# EAGLE library part DS1307* (library IC_Clock-Timing)
64 x 8, Serial, I2 C Real-Time Clock Datasheet <https://datasheets.maximintegrated.com/en/ds/DS1307.pdf>
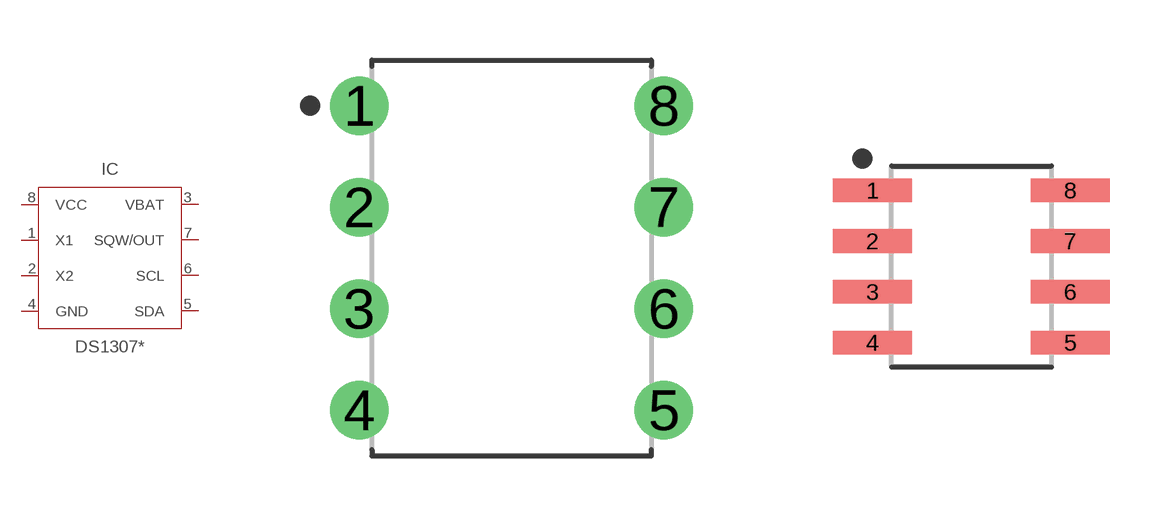
[diagram p1: symbol with the pads of DIP762W56P254L937H457Q8B; footprints DIP762W56P254L937H457Q8B, SOIC127P600X175-8N]

Designator prefix IC

## DS1307+-PDIP (CATEGORY: IC_Clock-Timing; DESCRIPTION: 64 x 8, Serial, I2 C Real-Time Clock; MANUFACTURER: Maxim Integrated; MPN: DS1307+; OPERATING_TEMP: 0°C to +70°C; PART_STATUS: Active; ROHS_COMPLIANT: COMPLIANT; SERIES: DS1307; SUB-CATEGORY: RTC; VALUE: DS1307), DS1307N+-PDIP (CATEGORY: IC_Clock-Timing; DESCRIPTION: 64 x 8, Serial, I2 C Real-Time Clock; MANUFACTURER: Maxim Integrated; MPN: DS1307N+; OPERATING_TEMP: -40°C to +85°C; PART_STATUS: Active; ROHS_COMPLIANT: COMPLIANT; SERIES: DS1307; SUB-CATEGORY: RTC; VALUE: DS1307)  [DIP762W56P254L937H457Q8B]
1  X1  in
2  X2  in
3  VBAT  pwr
4  GND  pwr
5  SDA
6  SCL  in
7  SQW/OUT  out
8  VCC  pwr

## DS1307Z+-SO (CATEGORY: IC_Clock-Timing; DESCRIPTION: 64 x 8, Serial, I2 C Real-Time Clock; MANUFACTURER: Maxim Integrated; MPN: DS1307Z+; OPERATING_TEMP: 0°C to +70°C; PART_STATUS: Active; ROHS_COMPLIANT: COMPLIANT; SERIES: DS1307; SUB-CATEGORY: RTC; VALUE: DS1307), DS1307Z+T&R-SO (CATEGORY: IC_Clock-Timing; DESCRIPTION: 64 x 8, Serial, I2 C Real-Time Clock; MANUFACTURER: Maxim Integrated; MPN: DS1307Z+T&R; OPERATING_TEMP: 0°C to +70°C; PART_STATUS: Active; ROHS_COMPLIANT: COMPLIANT; SERIES: DS1307; SUB-CATEGORY: RTC; VALUE: DS1307), DS1307ZN+-SO (CATEGORY: IC_Clock-Timing; DESCRIPTION: 64 x 8, Serial, I2 C Real-Time Clock; MANUFACTURER: Maxim Integrated; MPN: DS1307ZN+; OPERATING_TEMP: -40°C to +85°C; PART_STATUS: Active; ROHS_COMPLIANT: COMPLIANT; SERIES: DS1307; SUB-CATEGORY: RTC; VALUE: DS1307), DS1307ZN+T&R-SO (CATEGORY: IC_Clock-Timing; DESCRIPTION: 64 x 8, Serial, I2 C Real-Time Clock; MANUFACTURER: Maxim Integrated; MPN: DS1307ZN+T&R; OPERATING_TEMP: -40°C to +85°C; PART_STATUS: Active; ROHS_COMPLIANT: COMPLIANT; SERIES: DS1307; SUB-CATEGORY: RTC; VALUE: DS1307)  [SOIC127P600X175-8N]
Pads as for DIP762W56P254L937H457Q8B

## Footprint DIP762W56P254L937H457Q8B (pad centres in mm)
8-DIP, 2.54 mm (0.10 in) pitch, 7.62 mm (0.30 in) span, 9.38 X 6.79 X 4.57 mm body 8-pin DIP package with 2.54 mm (0.10 in) pitch, 7.62 mm (0.30 in) span with body size 9.38 X 6.79 X 4.57 mm
drill 0.863 pad 1.463: 1 -3.81,3.81; 2 -3.81,1.27; 3 -3.81,-1.27; 4 -3.81,-3.81; 5 3.81,-3.81; 6 3.81,-1.27; 7 3.81,1.27; 8 3.81,3.81

## Footprint SOIC127P600X175-8N (pad centres in mm)
8-SOIC, 1.27 mm pitch, 6.00 mm span, 4.90 X 3.90 X 1.75 mm body 8-pin SOIC package with 1.27 mm pitch, 6.00 mm span with body size 4.90 X 3.90 X 1.75 mm
smd 1.969 x 0.592: 1 -2.474,1.905; 2 -2.474,0.635; 3 -2.474,-0.635; 4 -2.474,-1.905; 5 2.474,-1.905; 6 2.474,-0.635; 7 2.474,0.635; 8 2.474,1.905